# Altium footprint library Connectors.PcbLib: 205 footprints (part 2 of 13)
Each footprint in its own frame and in the unit in brackets; x right, y up, seen from the top. Pads: shape width x height; smd on the part's side, far side on the other; paste and mask are expansions set on the pad; w line width, h text height; cw(c..) or ccw(c..) is an arc to the next point about the centre after c.
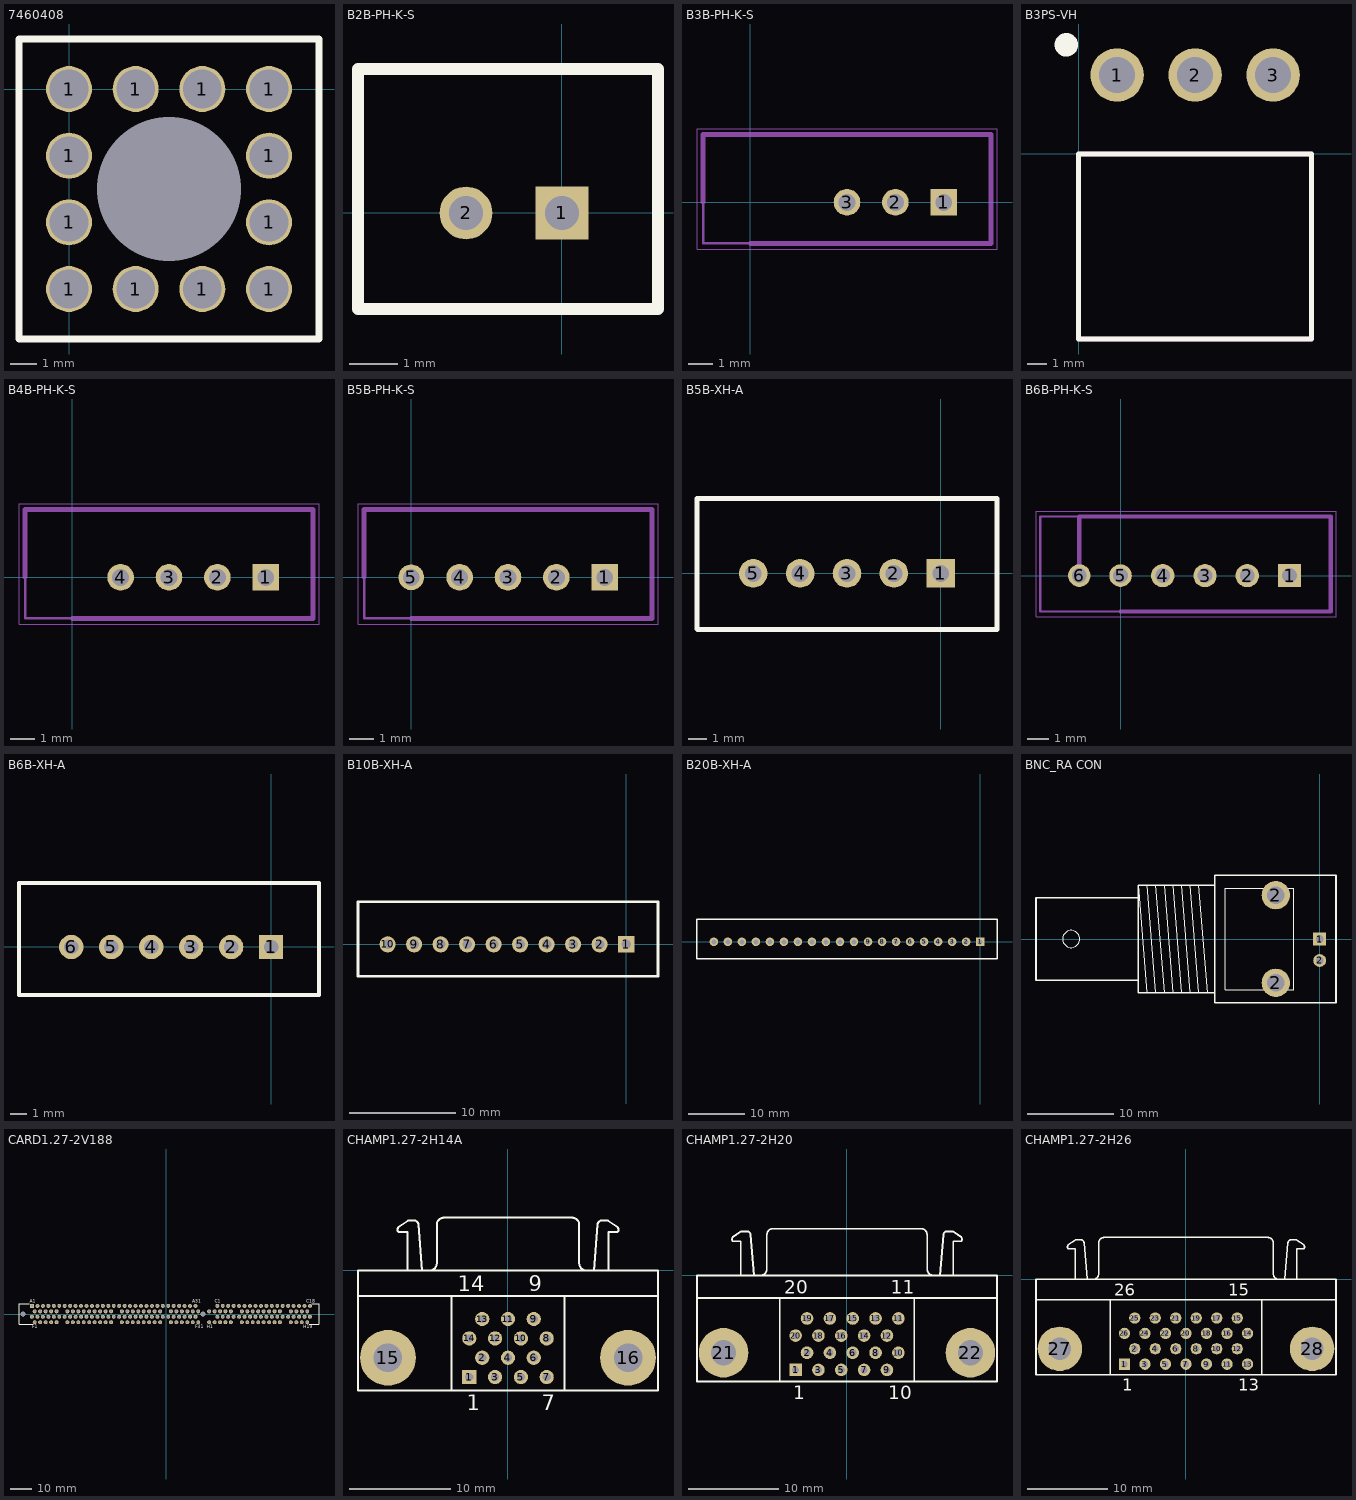
[diagram p1: the footprints below, top view; thin cyan lines are the x and y axes]

## 7460408 [mm] "Drill hole specification for chemical surfaces"
pads (13):
  round 1.75 hole 1.475: 1(0,-7.62) 1(0,-5.08) 1(0,-2.54) 1(0,0) 1(2.54,-7.62) 1(2.54,0) 1(5.08,-7.62) 1(5.08,0) 1(7.62,-7.62) 1(7.62,-5.08) 1(7.62,-2.54) 1(7.62,0)
  round 0 hole 5.5: Hole(3.81,-3.81)
Top Overlay:
  lines w0.254: -1.905,-9.525 9.525,-9.525 9.525,-8.89 9.525,1.905 -1.905,1.905 -1.905,-9.525
3D body: height 6, standoff 0, extent -0.7,-8.3 8.3,0.7

## B2B-PH-K-S [mm]
pads (2):
  rect 1.1x1.1 hole 0.7: 1(0,0)
  round 1.1 / inner round 1.524 / far side round 1.1 hole 0.7: 2(-2,0)
Top Overlay:
  lines w0.254: -4.25,-2 2,-2 2,3 -4.25,3 -4.25,-2
3D body "B2B-PH-K-S.STEP": height 6, standoff -3.4, extent -4.092,-1.706 1.808,2.794

## B3B-PH-K-S [mm]
pads (3):
  rect 1.1x1.1 hole 0.7: 1(8,0)
  round 1.1 / inner round 1.524 / far side round 1.1 hole 0.7: 2(6,0) 3(4,0)
Mechanical 8:
  lines w0.05: -2.2,-1.95 -2.2,3.05 10.2,3.05 10.2,-1.95 -2.2,-1.95
  lines w0.1: -1.95,-1.7 -1.95,2.8 9.95,2.8 9.95,-1.7 -1.95,-1.7
Mechanical 22:
  lines w0.2: -1.95,0 -1.95,2.8 9.95,2.8 9.95,-1.7 0,-1.7
3D body "B3B-PH-K-S.STEP": height 6, standoff -3.4, extent 2.05,-1.7 9.95,2.8

## B3PS-VH [mm]
pads (3):
  round 2.71 / inner round 1.524 / far side round 2.71 hole 1.81: 1(1.95,4) 2(5.91,4) 3(9.87,4)
Top Overlay:
  circle w0.6: c-0.626,5.534 r0.295
  lines w0.254: 0,-9.4 0,0 11.82,0 11.82,-9.4 0,-9.4
Mechanical 22:
  lines w0.254: 0,-9.4 11.82,-9.4 11.82,0 0,0 0,-9.4
3D body "B3PS-VH.STEP": height 3.6, standoff -8.5, extent 0,-10.772 11.82,4.698

## B4B-PH-K-S [mm]
pads (4):
  rect 1.1x1.1 hole 0.7: 1(8,0)
  round 1.1 / inner round 1.524 / far side round 1.1 hole 0.7: 2(6,0) 3(4,0) 4(2,0)
Mechanical 8:
  lines w0.05: -2.2,-1.95 10.2,-1.95 10.2,3.05 -2.2,3.05 -2.2,-1.95
  lines w0.1: -1.95,-1.7 9.95,-1.7 9.95,2.8 -1.95,2.8 -1.95,-1.7
Mechanical 22:
  lines w0.2: -1.95,0 -1.95,2.8 9.95,2.8 9.95,-1.7 0,-1.7
3D body "B4B-PH-K-S.STEP": height 6, standoff -3.4, extent 0.079,-1.702 9.979,2.798

## B5B-PH-K-S [mm]
pads (5):
  rect 1.1x1.1 hole 0.7: 1(8,0)
  round 1.1 / inner round 1.524 / far side round 1.1 hole 0.7: 2(6,0) 3(4,0) 4(2,0)
  round 1.065 hole 0.7: 5(0,0)
Mechanical 8:
  lines w0.05: -2.2,-1.95 10.2,-1.95 10.2,3.05 -2.2,3.05 -2.2,-1.95
  lines w0.1: -1.95,-1.7 9.95,-1.7 9.95,2.8 -1.95,2.8 -1.95,-1.7
Mechanical 22:
  lines w0.2: -1.95,0 -1.95,2.8 9.95,2.8 9.95,-1.7 0,-1.7
3D body "B5B-PH-K-S.STEP": height 6, standoff -3.4, extent -1.95,-1.706 9.95,2.794

## B5B-XH-A [mil] "2.5 mm JST"
pads (5):
  rect 60x60 hole 35.43: 1(0,0)
  round 60 hole 35.43: 2(-98.43,0) 3(-196.85,0) 4(-295.28,0) 5(-393.7,0)
Top Overlay:
  lines w10: -511.81,-117.3 -511.81,157.48 118.11,157.48 118.11,-118.11 -511,-118.11
3D body "B5B-XH-A.step": height 275.59, standoff -133.86, extent -491.31,-94 95.31,132.38

## B6B-PH-K-S [mm]
pads (6):
  rect 1.1x1.1 hole 0.7: 1(8,0)
  round 1.1 / inner round 1.524 / far side round 1.1 hole 0.7: 2(6,0) 3(4,0) 4(2,0)
  round 1.065 hole 0.7: 5(0,0) 6(-1.95,0)
Mechanical 8:
  lines w0.05: -4,-1.95 10.2,-1.95 10.2,3.05 -4,3.05 -4,-1.95
  lines w0.1: -3.8,-1.7 9.95,-1.7 9.95,2.8 -3.8,2.8 -3.8,-1.7
Mechanical 22:
  lines w0.2: -1.95,0 -1.95,2.8 9.95,2.8 9.95,-1.7 0,-1.7
3D body "B6B-PH-K-S.STEP": height 6, standoff -3.4, extent -3.9,-1.65 10,2.85

## B6B-XH-A [mil]
pads (6):
  rect 60x60 hole 35.43: 1(0,0)
  round 60 hole 35.43: 2(-98.43,0) 3(-196.85,0) 4(-295.28,0) 5(-393.7,0) 6(-492.13,0)
Top Overlay:
  lines w10: -621,-118.11 118.11,-118.11 118.11,157.48 -621,157.48 -621,-118.11
3D body "B6B-XH-A.step": height 275.59, standoff -133.86, extent -590.04,-92.19 95,134.19

## B10B-XH-A [mil] "2.5 mm JST"
pads (10):
  rect 60x60 hole 35.43: 1(0,0)
  round 60 hole 35.43: 2(-98.43,0) 3(-196.85,0) 4(-295.28,0) 5(-393.7,0) 6(-492.13,0) 7(-590.55,0) 8(-688.98,0) 9(-787.4,0) 10(-885.83,0)
Top Overlay:
  lines w10: -996,-118.11 -996,157.48 118.11,157.48 118.11,-118.11 -996,-118.11
3D body "B10B-XH-A.step": height 275.59, standoff -133.86, extent -980.37,-95 98.37,131.38

## B20B-XH-A [mil] "2.5 mm JST"
pads (20):
  rect 60x60 hole 35.43: 1(0,0)
  round 60 hole 35.43: 2(-98.43,0) 3(-196.85,0) 4(-295.28,0) 5(-393.7,0) 6(-492.13,0) 7(-590.55,0) 8(-688.98,0) 9(-787.4,0) 10(-885.83,0) 11(-984.25,0) 12(-1082.68,0) 13(-1181.1,0) 14(-1279.53,0) 15(-1377.95,0) 16(-1476.38,0) 17(-1574.8,0) 18(-1673.23,0) 19(-1771.65,0) 20(-1870.08,0)
Top Overlay:
  lines w10: -1988.19,-118.11 118.11,-118.11 118.11,157.48 -1988.19,157.48 -1988.19,-118.11
3D body "B20B-XH-A.step": height 275.59, standoff -133.86, extent -1967,-94.19 96,132.19

## BNC_RA CON [mm] "Connector; BNC Elbow"
pads (4):
  rect 1.5x1.5 hole 0.9: 1(0,0)
  round 3.3 hole 2: 2(-5.1,-5.1) 2(-5.1,5.1)
  round 1.5 hole 0.9: 2(0,-2.5)
Top Overlay:
  circle w0.025: c-28.9,0 r1
  lines w0.025: -20.1,-6.25 -21.1,6.25 ; -20.1,6.25 -19.1,-6.25 ; -19.1,6.25 -18.1,-6.25 ; -18.1,6.25 -17.1,-6.25 ; -17.1,6.25 -16.1,-6.25 ; -16.1,6.25 -15.1,-6.25 ; -15.1,6.25 -14.1,-6.25 ; -14.1,6.25 -13.1,-6.25 ; -21.1,-4.8 -33,-4.8 -33,4.8 -21.1,4.8 ; -21.1,-4.8 -21.1,4.8 ; -21.1,-4.8 -21.1,-6.25 -12.2,-6.25 ; -21.1,4.8 -21.1,6.25 ; -21.1,6.25 -12.2,6.25 ; -12.2,-6.25 -12.2,6.25 ; -12.2,-6.25 -12.2,-7.4 1.9,-7.4 1.9,7.4 -12.2,7.4 -12.2,6.25 ; -11,-5.9 -3,-5.9 -3,5.9 -11,5.9 -11,-5.9
  lines w0.2: -21.1,-4.8 -21.1,4.8 ; -21.1,-4.8 -33,-4.8 -33,4.8 -21.1,4.8 ; -21.1,-4.8 -21.1,-6.25 -12.2,-6.25 ; -21.1,4.8 -21.1,6.25 -12.2,6.25 ; -12.2,-6.25 -12.2,6.25 ; -12.2,-6.25 -12.2,-7.4 1.9,-7.4 1.9,7.4 -12.2,7.4 -12.2,6.25

## CARD1.27-2V188 [mm] "Connector; EISA, Thru-Hole; 188 Position; Vertical; Pitch 1.27 mm"
height 15.49
pads (190):
  rect 1.85x1.85 hole 1.1: A1(-62.685,3.81)
  round 1.85 hole 1.1: A2(-60.145,3.81) A3(-57.605,3.81) A4(-55.065,3.81) A5(-52.525,3.81) A6(-49.985,3.81) A7(-47.445,3.81) A8(-44.905,3.81) A9(-42.365,3.81) A10(-39.825,3.81) A11(-37.285,3.81) A12(-34.745,3.81) A13(-32.205,3.81) A14(-29.665,3.81) A15(-27.125,3.81) A16(-24.585,3.81) A17(-22.045,3.81) A18(-19.505,3.81) A19(-16.965,3.81) A20(-14.425,3.81) A21(-11.885,3.81) A22(-9.345,3.81) A23(-6.805,3.81) A24(-4.265,3.81) A25(-1.725,3.81) A26(0.815,3.81) A27(3.355,3.81) A28(5.895,3.81) A29(8.435,3.81) A30(10.975,3.81) A31(13.515,3.81) B1(-62.685,-1.27) B2(-60.145,-1.27) B3(-57.605,-1.27) B4(-55.065,-1.27) B5(-52.525,-1.27) B6(-49.985,-1.27) B7(-47.445,-1.27) B8(-44.905,-1.27) B9(-42.365,-1.27) B10(-39.825,-1.27) B11(-37.285,-1.27) B12(-34.745,-1.27) B13(-32.205,-1.27) B14(-29.665,-1.27) B15(-27.125,-1.27) B16(-24.585,-1.27) B17(-22.045,-1.27) B18(-19.505,-1.27) B19(-16.965,-1.27) B20(-14.425,-1.27) B21(-11.885,-1.27) B22(-9.345,-1.27) B23(-6.805,-1.27) B24(-4.265,-1.27) B25(-1.725,-1.27) B26(0.815,-1.27) B27(3.355,-1.27) B28(5.895,-1.27) B29(8.435,-1.27) B30(10.975,-1.27) B31(13.515,-1.27) C1(23.675,3.81) C2(26.215,3.81) C3(28.755,3.81) C4(31.295,3.81) C5(33.835,3.81) C6(36.375,3.81) C7(38.915,3.81) C8(41.455,3.81) C9(43.995,3.81) C10(46.535,3.81) C11(49.075,3.81) C12(51.615,3.81) C13(54.155,3.81) C14(56.695,3.81) C15(59.235,3.81) C16(61.775,3.81) C17(64.315,3.81) C18(66.855,3.81) D1(23.675,-1.27) D2(26.215,-1.27) D3(28.755,-1.27) D4(31.295,-1.27) D5(33.835,-1.27) D6(36.375,-1.27) D7(38.915,-1.27) D8(41.455,-1.27) D9(43.995,-1.27) D10(46.535,-1.27) D11(49.075,-1.27) D12(51.615,-1.27) D13(54.155,-1.27) D14(56.695,-1.27) D15(59.235,-1.27) D16(61.775,-1.27) D17(64.315,-1.27) D18(66.855,-1.27) E1(-61.415,1.27) E2(-58.875,1.27) E3(-56.335,1.27) E4(-53.795,1.27) E5(-51.255,1.27) E7(-46.175,1.27) E8(-43.635,1.27) E9(-41.095,1.27) E10(-38.555,1.27) E11(-36.015,1.27) E12(-33.475,1.27) E13(-30.935,1.27) E14(-28.395,1.27) E15(-25.855,1.27) E17(-20.775,1.27) E18(-18.235,1.27) E19(-15.695,1.27) E20(-13.155,1.27) E21(-10.615,1.27) E22(-8.075,1.27) E23(-5.535,1.27) E24(-2.995,1.27) E26(2.085,1.27) E27(4.625,1.27) E28(7.165,1.27) E29(9.705,1.27) E30(12.245,1.27) E31(14.785,1.27) F1(-61.415,-3.81) F2(-58.875,-3.81) F3(-56.335,-3.81) F4(-53.795,-3.81) F5(-51.255,-3.81) F7(-46.175,-3.81) F8(-43.635,-3.81) F9(-41.095,-3.81) F10(-38.555,-3.81) F11(-36.015,-3.81) F12(-33.475,-3.81) F13(-30.935,-3.81) F14(-28.395,-3.81) F15(-25.855,-3.81) F17(-20.775,-3.81) F18(-18.235,-3.81) F19(-15.695,-3.81) F20(-13.155,-3.81) F21(-10.615,-3.81) F22(-8.075,-3.81) F23(-5.535,-3.81) F24(-2.995,-3.81) F26(2.085,-3.81) F27(4.625,-3.81) F28(7.165,-3.81) F29(9.705,-3.81) F30(12.245,-3.81) F31(14.785,-3.81) G1(19.865,1.27) G2(22.405,1.27) G3(24.945,1.27) G4(27.485,1.27) G5(30.025,1.27) G7(35.105,1.27) G8(37.645,1.27) G9(40.185,1.27) G10(42.725,1.27) G11(45.265,1.27) G12(47.805,1.27) G13(50.345,1.27) G14(52.885,1.27) G16(57.965,1.27) G17(60.505,1.27) G18(63.045,1.27) G19(65.585,1.27) H1(19.865,-3.81) H2(22.405,-3.81) H3(24.945,-3.81) H4(27.485,-3.81) H5(30.025,-3.81) H7(35.105,-3.81) H8(37.645,-3.81) H9(40.185,-3.81) H10(42.725,-3.81) H11(45.265,-3.81) H12(47.805,-3.81) H13(50.345,-3.81) H14(52.885,-3.81) H16(57.965,-3.81) H17(60.505,-3.81) H18(63.045,-3.81) H19(65.585,-3.81)
  round 2.14 hole 2.45: MH1(-66.855,0) MH2(16.965,0)
Top Overlay:
  lines w0.2: -64.06,4.76 -68.735,4.76 -68.735,-4.76 -62.345,-4.76 ; 66.515,-4.76 71.065,-4.76 71.065,4.76 67.785,4.76
  text "C18" at 65.105,5.26 h1.5
  text "H19" at 63.835,-6.71 h1.5
  text "C1" at 22.575,5.26 h1.5
  text "H1" at 18.765,-6.71 h1.5
  text "F1" at -62.515,-6.71 h1.5
  text "F31" at 13.285,-6.71 h1.5
  text "A31" at 12.015,5.26 h1.5
  text "A1" at -63.785,5.26 h1.5

## CHAMP1.27-2H14A [mm] "Connector; 14 Position; Right Angle; Pitch 1.27 mm"
height 9.6
pads (16):
  rect 1.4x1.4 hole 0.8: 1(-3.81,-10.5)
  round 1.4 hole 0.8: 2(-2.54,-8.595) 3(-1.27,-10.5) 4(0,-8.595) 5(1.27,-10.5) 6(2.54,-8.595) 7(3.81,-10.5) 8(3.81,-6.69) 9(2.54,-4.785) 10(1.27,-6.69) 11(0,-4.785) 12(-1.27,-6.69) 13(-2.54,-4.785) 14(-3.81,-6.69)
  round 5.5 hole 2.8: 15(-11.82,-8.595) 16(11.82,-8.595)
Top Overlay:
  lines w0.2: -14.77,-2.5 14.77,-2.5 ; -10.785,4.27 -9.845,4.898 -9.123,4.898 cw(c-9.225,4.5) -8.815,4.5 ; -10.771,4.255 ccw(c-10.545,4.01) -10.795,3.79 -9.915,3.79 -9.915,0 ; -8.815,4.52 -8.445,0 ; -7.705,0.005 ccw(c-7.705,0.7) -7.01,0.7 -7.01,4.5 ; -7.005,4.505 cw(c-6.31,4.505) -6.31,5.2 6.31,5.2 cw(c6.31,4.505) 7.005,4.505 ; -5.57,-11.8 -5.57,-2.58 ; 5.57,-11.8 5.57,-2.5 ; 7.01,4.5 7.01,0.7 ccw(c7.705,0.7) 7.705,0.005 ; 8.445,0 8.815,4.52 ; 8.815,4.5 cw(c9.225,4.5) 9.123,4.898 9.845,4.898 10.785,4.27 ; 9.915,0 9.915,3.79 10.795,3.79 ccw(c10.545,4.01) 10.771,4.255 ; -14.77,-11.8 -14.77,0 14.77,0 14.77,-11.8 -14.77,-11.8
  text "7" at 3.31,-13.775 h1.5
  text "1" at -4.06,-13.775 h1.5
  text "14" at -4.935,-2.025 h1.5
  text "9" at 2.04,-2.025 h1.5

## CHAMP1.27-2H20 [mm] "Connector; 20 Position; Right Angle; Pitch 1.27 mm"
height 9.6
pads (22):
  rect 1.4x1.4 hole 0.8: 1(-5.715,-10.5)
  round 1.4 hole 0.8: 2(-4.445,-8.595) 3(-3.175,-10.5) 4(-1.905,-8.595) 5(-0.635,-10.5) 6(0.635,-8.595) 7(1.905,-10.5) 8(3.175,-8.595) 9(4.445,-10.5) 10(5.715,-8.595) 11(5.715,-4.785) 12(4.445,-6.69) 13(3.175,-4.785) 14(1.905,-6.69) 15(0.635,-4.785) 16(-0.635,-6.69) 17(-1.905,-4.785) 18(-3.175,-6.69) 19(-4.445,-4.785) 20(-5.715,-6.69)
  round 5.5 hole 2.8: 21(-13.725,-8.595) 22(13.725,-8.595)
Top Overlay:
  lines w0.2: -16.675,-2.5 16.675,-2.5 ; -12.69,4.27 -11.75,4.898 -11.028,4.898 cw(c-11.13,4.5) -10.72,4.5 ; -12.676,4.255 ccw(c-12.45,4.01) -12.7,3.79 -11.82,3.79 -11.82,0 ; -10.72,4.52 -10.35,0 ; -9.61,0.005 ccw(c-9.61,0.7) -8.915,0.7 -8.915,4.5 ; -8.91,4.505 cw(c-8.215,4.505) -8.215,5.2 8.215,5.2 cw(c8.215,4.505) 8.91,4.505 ; -7.475,-11.8 -7.475,-2.58 ; 7.475,-11.8 7.475,-2.5 ; 8.915,4.5 8.915,0.7 ccw(c9.61,0.7) 9.61,0.005 ; 10.35,0 10.72,4.52 ; 10.72,4.5 cw(c11.13,4.5) 11.028,4.898 11.75,4.898 12.69,4.27 ; 11.82,0 11.82,3.79 12.7,3.79 ccw(c12.45,4.01) 12.676,4.255 ; -16.675,-11.8 16.675,-11.8 16.675,0 -16.675,0 -16.675,-11.8
  text "11" at 4.84,-2.025 h1.5
  text "20" at -6.965,-2.025 h1.5
  text "10" at 4.59,-13.775 h1.5
  text "1" at -5.965,-13.775 h1.5

## CHAMP1.27-2H26 [mm] "Connector; 26 Position; Right Angle; Pitch 1.27 mm"
height 9.6
pads (28):
  rect 1.4x1.4 hole 0.8: 1(-7.62,-10.5)
  round 1.4 hole 0.8: 2(-6.35,-8.595) 3(-5.08,-10.5) 4(-3.81,-8.595) 5(-2.54,-10.5) 6(-1.27,-8.595) 7(0,-10.5) 8(1.27,-8.595) 9(2.54,-10.5) 10(3.81,-8.595) 11(5.08,-10.5) 12(6.35,-8.595) 13(7.62,-10.5) 14(7.62,-6.69) 15(6.35,-4.785) 16(5.08,-6.69) 17(3.81,-4.785) 18(2.54,-6.69) 19(1.27,-4.785) 20(0,-6.69) 21(-1.27,-4.785) 22(-2.54,-6.69) 23(-3.81,-4.785) 24(-5.08,-6.69) 25(-6.35,-4.785) 26(-7.62,-6.69)
  round 5.5 hole 2.8: 27(-15.63,-8.595) 28(15.63,-8.595)
Top Overlay:
  lines w0.2: -18.58,-2.5 18.58,-2.5 ; -14.595,4.27 -13.655,4.898 -12.933,4.898 cw(c-13.035,4.5) -12.625,4.5 ; -14.581,4.255 ccw(c-14.355,4.01) -14.605,3.79 -13.725,3.79 -13.725,0 ; -12.625,4.52 -12.255,0 ; -11.515,0.005 ccw(c-11.515,0.7) -10.82,0.7 -10.82,4.5 ; -10.815,4.505 cw(c-10.12,4.505) -10.12,5.2 10.12,5.2 cw(c10.12,4.505) 10.815,4.505 ; -9.38,-11.8 -9.38,-2.58 ; 9.38,-11.8 9.38,-2.5 ; 10.82,4.5 10.82,0.7 ccw(c11.515,0.7) 11.515,0.005 ; 12.255,0 12.625,4.52 ; 12.625,4.5 cw(c13.035,4.5) 12.933,4.898 13.655,4.898 14.595,4.27 ; 13.725,0 13.725,3.79 14.605,3.79 ccw(c14.355,4.01) 14.581,4.255 ; -18.58,-11.8 18.58,-11.8 18.58,0 -18.58,0 -18.58,-11.8
  text "1" at -7.87,-13.775 h1.5
  text "15" at 5.225,-2.025 h1.5
  text "26" at -8.87,-2.025 h1.5
  text "13" at 6.495,-13.775 h1.5